# EAGLE library part 11400841 (library ExtraParts)
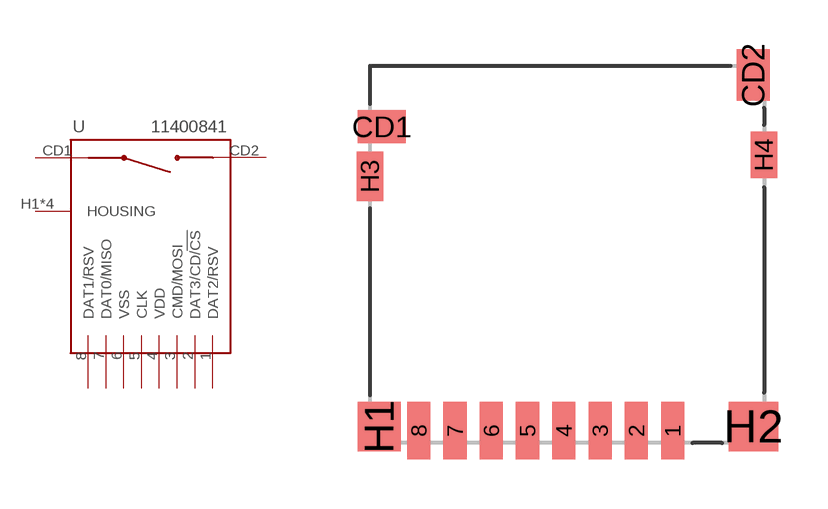
[diagram p3: symbol with the pads of 11400841; footprint 11400841]

Designator prefix -

## 11400841  [11400841]
1  DAT2/RSV
2  DAT3/CD/!CS
3  CMD/MOSI
4  VDD  pwr
5  CLK
6  VSS  pwr
7  DAT0/MISO
8  DAT1/RSV
CD1  CD1  pas
CD2  CD2  pas
H1  HOUSING  pwr
H2  HOUSING  pwr
H3  HOUSING  pwr
H4  HOUSING  pwr

## Footprint 11400841 (pad centres in mm)
smd 0.7 x 1.75: 1 3.2,-5.35; 2 2.1,-5.35; 3 1,-5.35; 4 -0.1,-5.35; 5 -1.2,-5.35; 6 -2.3,-5.35; 7 -3.4,-5.35; 8 -4.5,-5.35
smd 1.45 x 1: CD1 -5.625,3.875
smd 1 x 1.55: CD2 5.65,5.45
smd 1.3 x 1.5: H1 -5.7,-5.225
smd 1.5 x 1.5: H2 5.65,-5.225
smd 0.8 x 1.5: H3 -5.975,2.375
smd 0.8 x 1.4: H4 5.975,3.025